# Altium footprint library SparkFun-Aesthetics.PCBLIB: 85 footprints (part 4 of 6)
Each footprint in its own frame and in the unit in brackets; x right, y up, seen from the top. Pads: shape width x height; smd on the part's side, far side on the other; paste and mask are expansions set on the pad; w line width, h text height; cw(c..) or ccw(c..) is an arc to the next point about the centre after c.
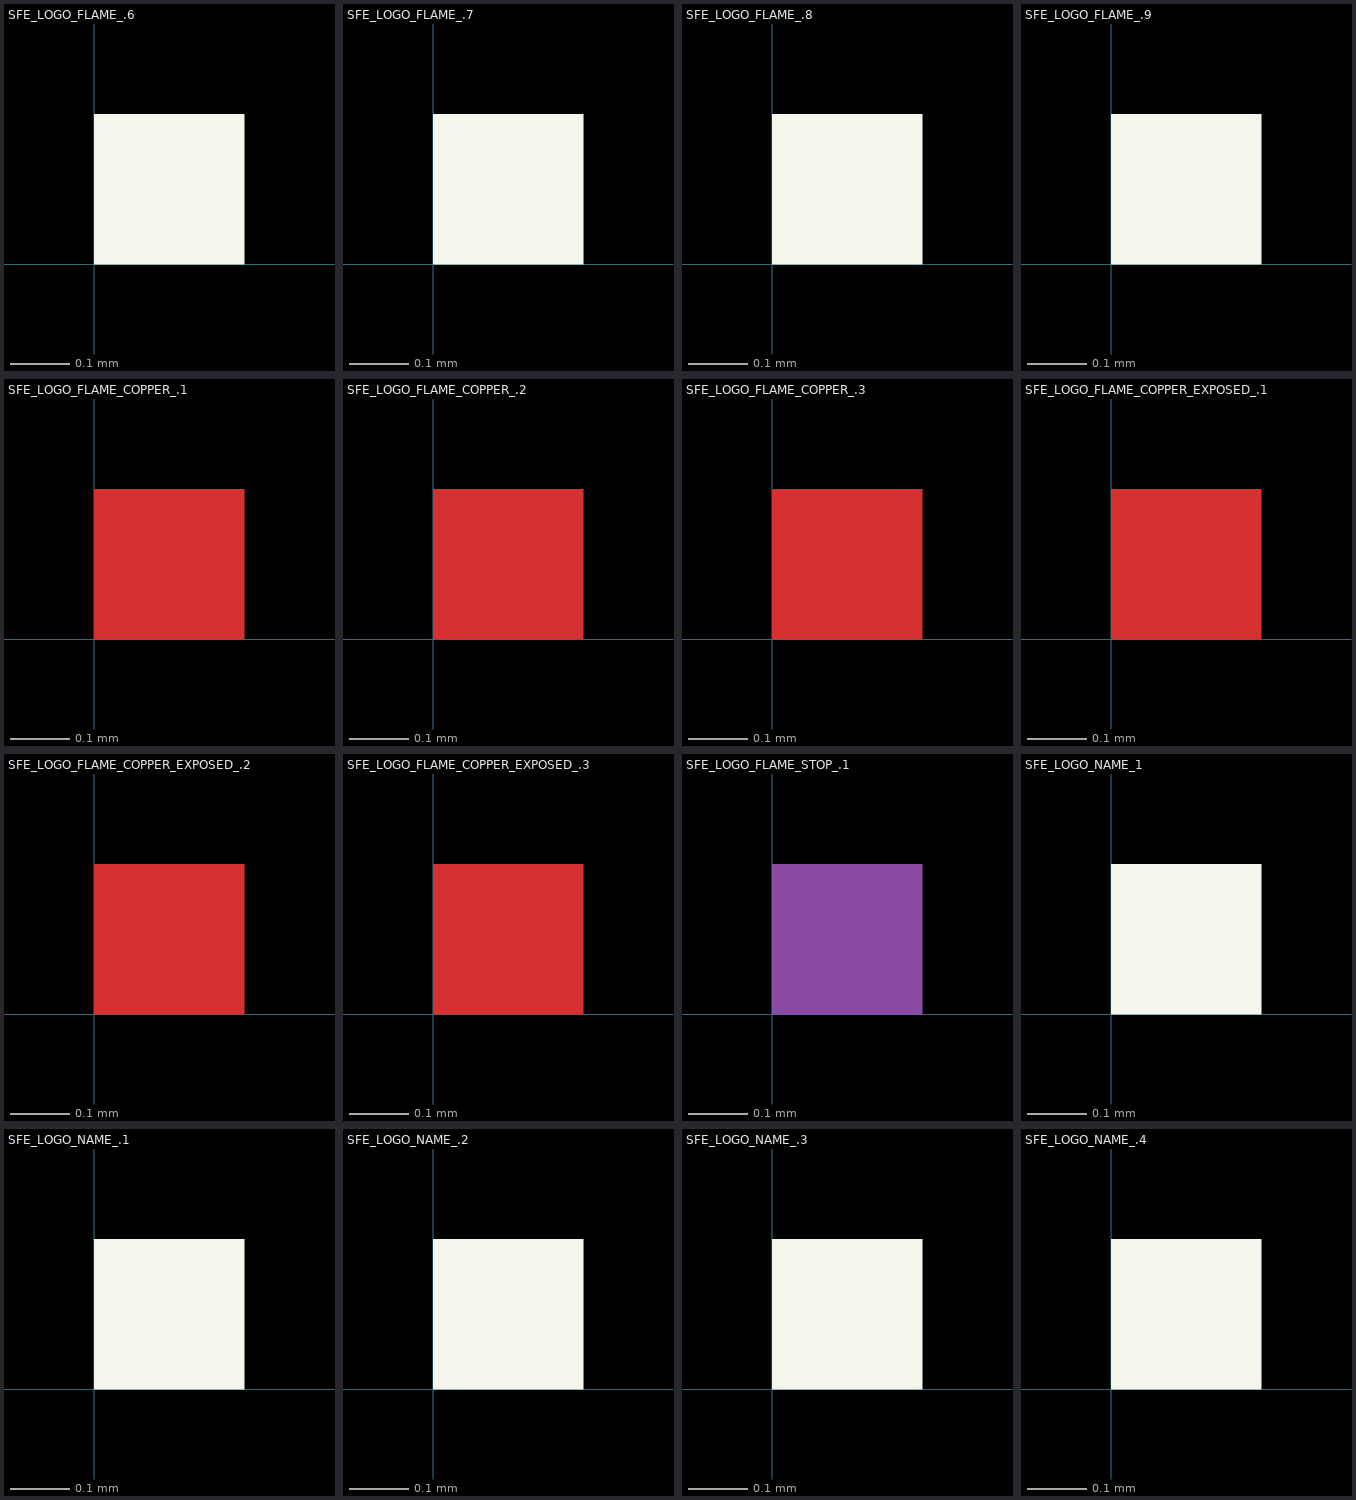
[diagram p3: the footprints below, top view; thin cyan lines are the x and y axes]

## SFE_LOGO_FLAME_.6 [mil]
Top Overlay:
  region: 0,0 10,0 10,10 0,10

## SFE_LOGO_FLAME_.7 [mil]
Top Overlay:
  region: 0,0 10,0 10,10 0,10

## SFE_LOGO_FLAME_.8 [mil]
Top Overlay:
  region: 0,0 10,0 10,10 0,10

## SFE_LOGO_FLAME_.9 [mil]
Top Overlay:
  region: 0,0 10,0 10,10 0,10

## SFE_LOGO_FLAME_COPPER_.1 [mil]
Top Layer:
  region: 0,0 10,0 10,10 0,10

## SFE_LOGO_FLAME_COPPER_.2 [mil]
Top Layer:
  region: 0,0 10,0 10,10 0,10

## SFE_LOGO_FLAME_COPPER_.3 [mil]
Top Layer:
  region: 0,0 10,0 10,10 0,10

## SFE_LOGO_FLAME_COPPER_EXPOSED_.1 [mil]
Top Layer:
  region: 0,0 10,0 10,10 0,10
Top Solder:
  region: 0,0 10,0 10,10 0,10

## SFE_LOGO_FLAME_COPPER_EXPOSED_.2 [mil]
Top Layer:
  region: 0,0 10,0 10,10 0,10
Top Solder:
  region: 0,0 10,0 10,10 0,10

## SFE_LOGO_FLAME_COPPER_EXPOSED_.3 [mil]
Top Layer:
  region: 0,0 10,0 10,10 0,10
Top Solder:
  region: 0,0 10,0 10,10 0,10

## SFE_LOGO_FLAME_STOP_.1 [mil]
Top Solder:
  region: 0,0 10,0 10,10 0,10
Mechanical 16:
  region: 0,0 10,0 10,10 0,10

## SFE_LOGO_NAME_1 [mil]
Top Overlay:
  region: 0,0 10,0 10,10 0,10
  region: 0,0 10,0 10,10 0,10
  region: 0,0 10,0 10,10 0,10
  region: 0,0 10,0 10,10 0,10
  region: 0,0 10,0 10,10 0,10
  region: 0,0 10,0 10,10 0,10
  region: 0,0 10,0 10,10 0,10
  region: 0,0 10,0 10,10 0,10
  region: 0,0 10,0 10,10 0,10
  region: 0,0 10,0 10,10 0,10

## SFE_LOGO_NAME_.1 [mil]
Top Overlay:
  region: 0,0 10,0 10,10 0,10
  region: 0,0 10,0 10,10 0,10
  region: 0,0 10,0 10,10 0,10
  region: 0,0 10,0 10,10 0,10
  region: 0,0 10,0 10,10 0,10
  region: 0,0 10,0 10,10 0,10
  region: 0,0 10,0 10,10 0,10
  region: 0,0 10,0 10,10 0,10
  region: 0,0 10,0 10,10 0,10
  region: 0,0 10,0 10,10 0,10

## SFE_LOGO_NAME_.2 [mil]
Top Overlay:
  region: 0,0 10,0 10,10 0,10
  region: 0,0 10,0 10,10 0,10
  region: 0,0 10,0 10,10 0,10
  region: 0,0 10,0 10,10 0,10
  region: 0,0 10,0 10,10 0,10
  region: 0,0 10,0 10,10 0,10
  region: 0,0 10,0 10,10 0,10
  region: 0,0 10,0 10,10 0,10
  region: 0,0 10,0 10,10 0,10
  region: 0,0 10,0 10,10 0,10

## SFE_LOGO_NAME_.3 [mil]
Top Overlay:
  region: 0,0 10,0 10,10 0,10
  region: 0,0 10,0 10,10 0,10
  region: 0,0 10,0 10,10 0,10
  region: 0,0 10,0 10,10 0,10
  region: 0,0 10,0 10,10 0,10
  region: 0,0 10,0 10,10 0,10
  region: 0,0 10,0 10,10 0,10
  region: 0,0 10,0 10,10 0,10
  region: 0,0 10,0 10,10 0,10
  region: 0,0 10,0 10,10 0,10

## SFE_LOGO_NAME_.4 [mil]
Top Overlay:
  region: 0,0 10,0 10,10 0,10
  region: 0,0 10,0 10,10 0,10
  region: 0,0 10,0 10,10 0,10
  region: 0,0 10,0 10,10 0,10
  region: 0,0 10,0 10,10 0,10
  region: 0,0 10,0 10,10 0,10
  region: 0,0 10,0 10,10 0,10
  region: 0,0 10,0 10,10 0,10
  region: 0,0 10,0 10,10 0,10
  region: 0,0 10,0 10,10 0,10